# Altium footprint library !SAMPLE.PcbLib: 1 footprints
Each footprint in its own frame and in the unit in brackets; x right, y up, seen from the top. Pads: shape width x height; smd on the part's side, far side on the other; paste and mask are expansions set on the pad; w line width, h text height; cw(c..) or ccw(c..) is an arc to the next point about the centre after c.

## SAMPLE [mm]
Top Comment:
  text ".Comment" at 1.5,5 h1.2
Top Designator:
  text ".Designator" at 0,5 h1.2